# Altium schematic symbol library XC9236A33DMR-G.SchLib: 1 symbol
Pins are listed as number, name and electrical type; pins without a type are passive.

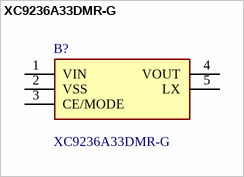
[diagram p0: symbol XC9236A33DMR-G]

## XC9236A33DMR-G
designator B?
Switching Voltage Regulators 600mA PFM/PWM DCDC Converter; Manufacturer_Name: Torex; Geometry.Height: 1.3mm; Mouser Part Number: 865-XC9236A33DMR-G; Mouser Price/Stock: https://www.mouser.co.uk/ProductDetail/Torex-Semiconductor/XC9236A33DMR-G?qs=AsjdqWjXhJ%2FLrLAbQ2bz5Q%3D%3D; Manufacturer_Part_Number: XC9236A33DMR-G; Datasheet Link: https://componentsearchengine.com/Datasheets/2/XC9236A33DMR-G.pdf
footprint SOT95P280X130-5N
pins: 1 VIN, 2 VSS, 3 CE/MODE, 4 VOUT, 5 LX